# Altium footprint library ZOE-M8G.PcbLib: 1 footprints
Each footprint in its own frame and in the unit in brackets; x right, y up, seen from the top. Pads: shape width x height; smd on the part's side, far side on the other; paste and mask are expansions set on the pad; w line width, h text height; cw(c..) or ccw(c..) is an arc to the next point about the centre after c.
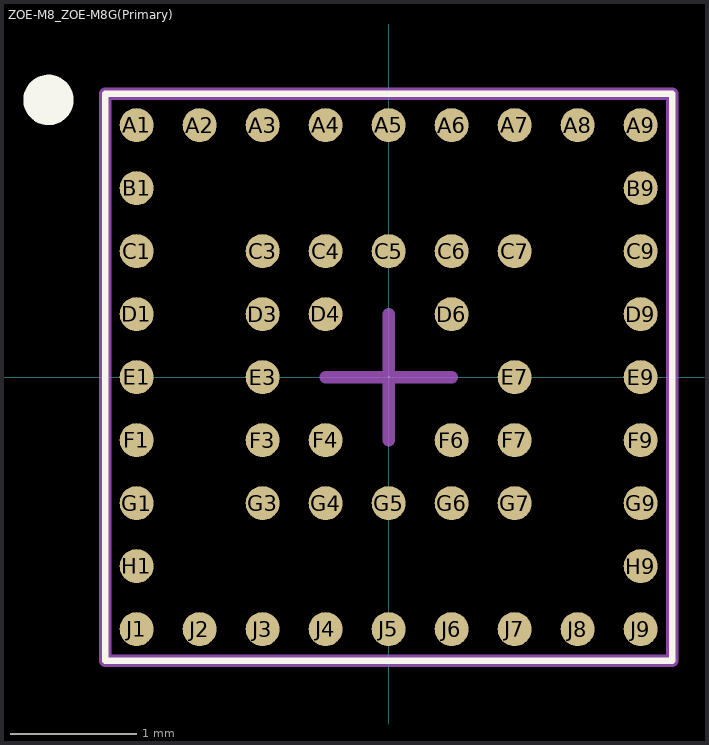
[diagram p0: the footprint, top view; thin cyan lines are the x and y axes]

## ZOE-M8_ZOE-M8G(Primary) [mm]
pads (51):
  round 0.27 smd: A1(-2,2) A2(-1.5,2) A3(-1,2) A4(-0.5,2) A5(0,2) A6(0.5,2) A7(1,2) A8(1.5,2) A9(2,2) B1(-2,1.5) B9(2,1.5) C1(-2,1) C3(-1,1) C4(-0.5,1) C5(0,1) C6(0.5,1) C7(1,1) C9(2,1) D1(-2,0.5) D3(-1,0.5) D4(-0.5,0.5) D6(0.5,0.5) D9(2,0.5) E1(-2,0) E3(-1,0) E7(1,0) E9(2,0) F1(-2,-0.5) F3(-1,-0.5) F4(-0.5,-0.5) F6(0.5,-0.5) F7(1,-0.5) F9(2,-0.5) G1(-2,-1) G5(0,-1) G7(1,-1) G9(2,-1) H1(-2,-1.5) H9(2,-1.5) J1(-2,-2) J2(-1.5,-2) J3(-1,-2) J4(-0.5,-2) J5(0,-2) J6(0.5,-2) J7(1,-2) J8(1.5,-2) J9(2,-2)
  round 0.27 smd mask+0.102: G3(-1,-1) G4(-0.5,-1) G6(0.5,-1)
Top Overlay:
  circle w0.2: c-2.7,2.2 r0.1
  lines w0: 0,0.003 0.005,0.003
  lines w0.05: -2.25,-2.25 2.25,-2.25 2.25,2.25 -2.25,2.25 -2.25,-2.25
Top Solder:
  circle w0: c2,2 r0.185
  circle w0: c2,1.5 r0.185
  circle w0: c2,1 r0.185
  circle w0: c2,0.5 r0.185
  circle w0: c2,0 r0.185
  circle w0: c2,-0.5 r0.185
  circle w0: c2,-1 r0.185
  circle w0: c2,-1.5 r0.185
  circle w0: c1.5,2 r0.185
  circle w0: c1,2 r0.185
  circle w0: c0.5,2 r0.185
  circle w0: c0,2 r0.185
  circle w0: c-0.5,2 r0.185
  circle w0: c-1,2 r0.185
  circle w0: c-1.5,2 r0.185
  circle w0: c-2,2 r0.185
  circle w0: c-2,1.5 r0.185
  circle w0: c-2,1 r0.185
  circle w0: c-2,0.5 r0.185
  circle w0: c-2,0 r0.185
  circle w0: c-2,-0.5 r0.185
  circle w0: c-2,-1 r0.185
  circle w0: c-2,-1.5 r0.185
  circle w0: c-2,-2 r0.185
  circle w0: c-1.5,-2 r0.185
  circle w0: c-1,-2 r0.185
  circle w0: c-0.5,-2 r0.185
  circle w0: c0,-2 r0.185
  circle w0: c0.5,-2 r0.185
  circle w0: c1,-2 r0.185
  circle w0: c1.5,-2 r0.185
  circle w0: c2,-2 r0.185
  circle w0: c-1,1 r0.185
  circle w0: c-1,0.5 r0.185
  circle w0: c-1,0 r0.185
  circle w0: c-1,-0.5 r0.185
  circle w0: c-1,-1 r0.185
  circle w0: c-0.5,1 r0.185
  circle w0: c-0.5,0.5 r0.185
  circle w0: c-0.5,-0.5 r0.185
  circle w0: c-0.5,-1 r0.185
  circle w0: c0,1 r0.185
  circle w0: c0,-1 r0.185
  circle w0: c0.5,1 r0.185
  circle w0: c0.5,0.5 r0.185
  circle w0: c0.5,-0.5 r0.185
  circle w0: c0.5,-1 r0.185
  circle w0: c1,1 r0.185
  circle w0: c1,0 r0.185
  circle w0: c1,-0.5 r0.185
  circle w0: c1,-1 r0.185
Mechanical 4:
  lines w0: -2.25,-2.25 -2.25,2.25 ; -2.25,-2.25 2.25,-2.25 ; -2.25,-2.25 -2.25,2.25 ; -2.25,-2.25 2.25,-2.25 ; -2.25,2.25 2.25,2.25 ; -2.25,2.25 2.25,2.25 ; 2.25,-2.25 2.25,2.25 ; 2.25,-2.25 2.25,2.25
Courtyard Top:
  lines w0.1: -0.5,0 0.5,0 ; 0,-0.5 0,0.5 ; -2.25,-2.25 -2.25,2.25 2.25,2.25 2.25,-2.25 -2.25,-2.25
3D body: height 1, standoff 0, extent -2.25,-2.25 2.25,2.25